# Altium footprint library Nixielib.PcbLib: 35 footprints (part 1 of 3)
Each footprint in its own frame and in the unit in brackets; x right, y up, seen from the top. Pads: shape width x height; smd on the part's side, far side on the other; paste and mask are expansions set on the pad; w line width, h text height; cw(c..) or ccw(c..) is an arc to the next point about the centre after c.
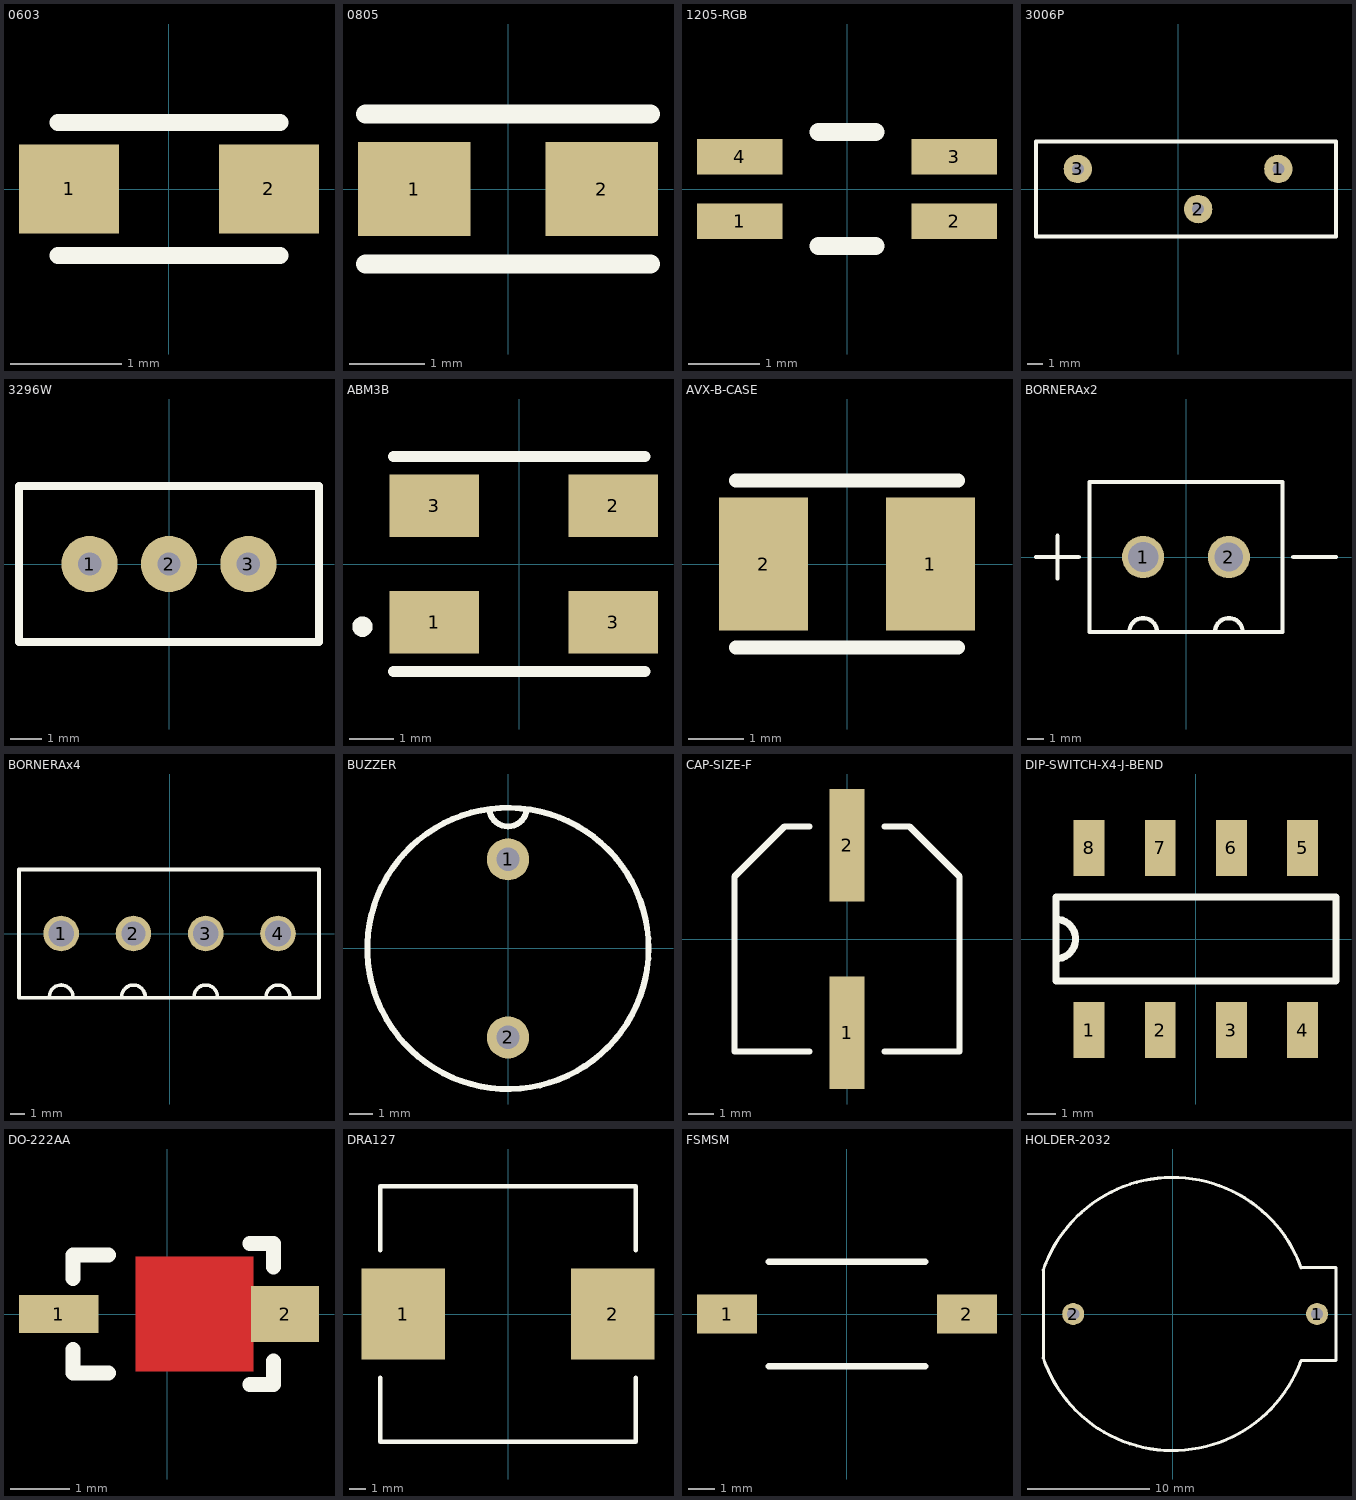
[diagram p0: the footprints below, top view; thin cyan lines are the x and y axes]

## 0603 [mm]
pads (2):
  rect 0.9x0.8 smd: 1(-0.9,0) 2(0.9,0)
Top Overlay:
  lines w0.152: -1,-0.6 1,-0.6 ; -1,0.6 1,0.6
3D body "SW3DPS-CAPACITOR 0603-DEFAULT.STEP": height 0.83, standoff -0.03, extent -0.8,-0.43 0.8,0.43

## 0805 [mm]
pads (2):
  rect 1.5x1.25 smd: 1(-1.25,0) 2(1.25,0)
Top Overlay:
  lines w0.254: -1.9,-1 1.9,-1 ; -1.9,1 1.9,1
3D body "SW3DPS-CAPACITOR 0805-DEFAULT.STEP": height 0.73, standoff -0.03, extent -1.08,-0.695 0.92,0.615

## 1205-RGB [mm]
pads (4):
  rect 1.2x0.5 smd: 1(-1.5,-0.45) 2(1.5,-0.45) 3(1.5,0.45) 4(-1.5,0.45)
Top Overlay:
  lines w0.254: -0.4,-0.8 0.4,-0.8 ; -0.4,0.8 0.4,0.8
3D body "User Library-FYLS-1206.STEP": height 1.1, standoff 0, extent -1.592,-0.81 1.608,0.79

## 3006P [mm]
pads (3):
  round 1.8 hole 0.75: 1(6.35,1.27) 2(1.27,-1.27) 3(-6.35,1.27)
Top Overlay:
  lines w0.254: -9,-3 -9,3 10,3 10,-3 -9,-3
3D body "User Library-bourns_3006p.step": height 7.17, standoff -4.38, extent -9.325,-2.213 11.249,2.613

## 3296W [mm]
pads (3):
  round 1.8 hole 0.75: 1(-2.54,0) 2(0,0) 3(2.54,0)
Top Overlay:
  lines w0.254: -4.8,-2.5 -4.8,2.5 4.8,2.5 4.8,-2.5 -4.8,-2.5
3D body "User Library-3296_Bourns.step": height 11.55, standoff -7.62, extent -4.765,-2.4 4.765,2.43

## ABM3B [mm]
pads (4):
  rect 2x1.4 smd: 1(-1.9,-1.3) 2(2.1,1.3) 3(-1.9,1.3) 3(2.1,-1.3)
Top Overlay:
  circle w0.254: c-3.5,-1.4 r0.1
  lines w0.254: -2.8,-2.4 2.8,-2.4 ; -2.8,2.4 2.8,2.4
3D body "User Library-ABM3B.STEP": height 1.2, standoff 0.1, extent -2.468,-1.626 2.532,1.574

## AVX-B-CASE [mm]
pads (2):
  rect 1.6x2.4 smd: 1(1.5,0) 2(-1.5,0)
Top Overlay:
  lines w0.254: -2,-1.5 2,-1.5 ; -2,1.5 2,1.5
3D body "User Library-AVX_BCASE.step": height 2.03, standoff 0, extent -1.85,-1.465 1.85,1.465

## BORNERAx2 [mm]
pads (2):
  round 2.5 hole 1.8: 1(-2.54,0)
  round 2.5 hole 1.7: 2(2.54,0)
Top Overlay:
  lines w0.254: -8.89,0 -6.35,0 ; -7.62,-1.27 -7.62,1.27 ; -3.365,-4.445 cw(c-2.54,-4.445) -1.715,-4.445 ; 1.715,-4.445 cw(c2.54,-4.445) 3.365,-4.445 ; 6.35,0 8.89,0 ; -5.715,-4.445 -5.715,4.445 5.715,4.445 5.715,-4.445 -5.715,-4.445
3D body "37818.stp": height 10, standoff -3.5, extent -5.4,-4.15 5.17,4

## BORNERAx4 [mm]
pads (4):
  round 2.5 hole 1.8: 1(-7.62,0) 3(2.54,0) 4(7.62,0)
  round 2.5 hole 1.7: 2(-2.54,0)
Top Overlay:
  lines w0.254: -8.445,-4.42 cw(c-7.62,-4.445) -6.795,-4.42 ; -3.365,-4.445 cw(c-2.54,-4.445) -1.715,-4.445 ; 1.715,-4.445 cw(c2.54,-4.445) 3.365,-4.445 ; 6.795,-4.445 cw(c7.62,-4.445) 8.445,-4.445 ; -10.58,-4.5 0.42,-4.5 10.5,-4.5 10.5,4.5 -10.58,4.5 -10.58,-4.5
3D body "37820.stp": height 10, standoff -3.5, extent -10.685,-4.1 9.885,4.05

## BUZZER [mm]
pads (2):
  round 1.8 hole 1: 1(0,3.8) 2(0,-3.8)
Top Overlay:
  circle w0.254: c0,0 r6
  lines w0.254: -0.776,5.806 ccw(c0,6) 0.776,5.806
3D body "CircuitWorks-BUZZER (SELFGEN).STEP": height 7.5, standoff -2, extent -5.993,-6 5.993,6

## CAP-SIZE-F [mm]
pads (2):
  rect 1.4x4.5 smd: 1(0,-3.75) 2(0,3.75)
Top Overlay:
  lines w0.254: -1.5,-4.5 -4.5,-4.5 -4.5,2.5 -2.5,4.5 -1.5,4.5 ; 1.5,-4.5 4.5,-4.5 4.5,2.5 2.5,4.5 1.5,4.5
3D body "User Library-capacitor size F.step": height 10.21, standoff -0.01, extent -4.15,-4.95 4.15,4.95

## DIP-SWITCH-X4-J-BEND [mm]
pads (8):
  rect 1.1x2 smd: 1(-3.81,-3.25) 2(-1.27,-3.25) 3(1.27,-3.25) 4(3.81,-3.25) 5(3.81,3.25) 6(1.27,3.25) 7(-1.27,3.25) 8(-3.81,3.25)
Top Overlay:
  lines w0.254: -5,-0.707 ccw(c-5,0) -5,0.707 ; -5,-1.5 -5,1.5 5,1.5 5,-1.5 -5,-1.5
3D body "c-5-2319848-6-a-3d.stp": height 3.4, standoff -0.05, extent -5.03,-3.93 5.03,3.93

## DO-222AA [mm]
pads (2):
  rect 1.35x0.65 smd: 1(-1.84,0)
  rect 1.15x0.95 smd: 2(2,0)
Top Layer:
  rectangle: -0.535,-0.975 1.465,0.975
Top Overlay:
  lines w0.254: -1.6,-0.6 -1.6,-1 -1,-1 ; -1.6,0.6 -1.6,1 -1,1 ; 1.4,-1.2 1.8,-1.2 1.8,-0.8 ; 1.4,1.2 1.8,1.2 1.8,0.8
Top Paste:
  rectangle: -0.535,-0.975 1.465,0.975
Top Solder:
  rectangle: -0.635,-1.075 1.565,1.075
3D body "User Library-DO216-AA.step": height 0.85, standoff 0, extent -1.9,-0.954 1.9,0.955

## DRA127 [mm]
pads (2):
  rect 5x5.4 smd: 1(-6.25,0) 2(6.25,0)
Top Overlay:
  lines w0.254: -7.62,-3.81 -7.62,-7.62 7.62,-7.62 7.62,-3.81 ; -7.62,3.81 -7.62,7.62 7.62,7.62 7.62,3.81
3D body: height 0.25, standoff 0, extent 0,0 0,0
3D body "IND_CB_DRA127.step": height 8, standoff 0, extent -6.248,-6.251 6.248,6.251
3D body: height 0.25, standoff 0, extent 0,0 0,0

## FSMSM [mm]
pads (2):
  rect 2.3x1.5 smd: 1(-4.6,0) 2(4.6,0)
Top Overlay:
  lines w0.254: -3,-2 3,-2 ; -3,2 3,2
3D body "1703878_fsmsm.stp": height 4.4, standoff -0.02, extent -4.985,-1.75 4.985,1.75

## HOLDER-2032 [mm]
pads (2):
  round 1.8 hole 1: 1(11.85,0) 2(-8.15,0)
Top Overlay:
  lines w0.254: -10.607,-3.602 ccw(c0,0) 10.526,-3.831 ; -10.605,3.602 cw(c0,0) 10.543,3.78 ; -10.6,-3.6 -10.6,3.6 ; 10.557,-3.8 13.4,-3.8 13.4,3.8 10.563,3.8
3D body "User Library-CR2032_HOR_HOLD.STEP": height 8.5, standoff -4, extent -11,-11.2 13.5,10.8